# EAGLE library part RPBRX62N (library samuel)
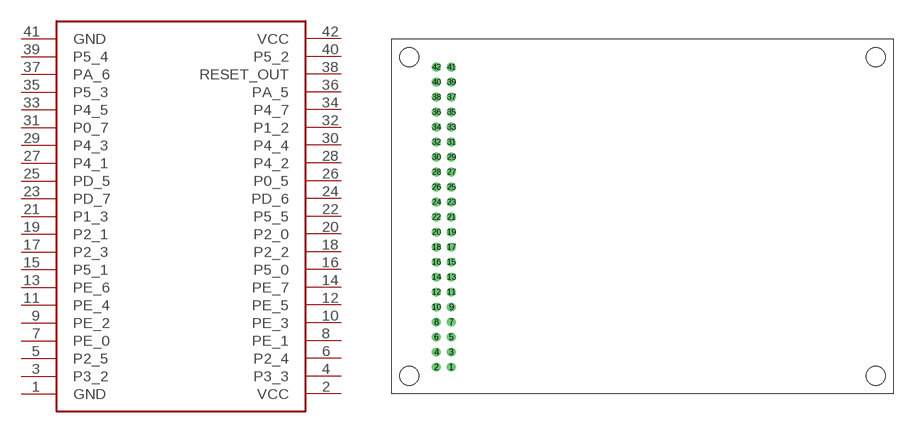
[diagram p0: symbol with the pads of RPBRX62N; footprint RPBRX62N]

Designator prefix -

## RPBRX62N  [RPBRX62N]
1  GND
2  VCC
3  P3_2
4  P3_3
5  P2_5
6  P2_4
7  PE_0
8  PE_1
9  PE_2
10  PE_3
11  PE_4
12  PE_5
13  PE_6
14  PE_7
15  P5_1
16  P5_0
17  P2_3
18  P2_2
19  P2_1
20  P2_0
21  P1_3
22  P5_5
23  PD_7
24  PD_6
25  PD_5
26  P0_5
27  P4_1
28  P4_2
29  P4_3
30  P4_4
31  P0_7
32  P1_2
33  P4_5
34  P4_7
35  P5_3
36  PA_5
37  PA_6
38  RESET_OUT
39  P5_4
40  P5_2
41  GND
42  VCC

## Footprint RPBRX62N (pad centres in mm)
drill 1: 1 10.16,4.462; 2 7.62,4.462; 3 10.16,7.002; 4 7.62,7.002; 5 10.16,9.542; 6 7.62,9.542; 7 10.16,12.082; 8 7.62,12.082; 9 10.16,14.622; 10 7.62,14.622; 11 10.16,17.162; 12 7.62,17.162; 13 10.16,19.702; 14 7.62,19.702; 15 10.16,22.242; 16 7.62,22.242; 17 10.16,24.782; 18 7.62,24.782; 19 10.16,27.322; 20 7.62,27.322; 21 10.16,29.862; 22 7.62,29.862; 23 10.16,32.402; 24 7.62,32.402; 25 10.16,34.942; 26 7.62,34.942; 27 10.16,37.482; 28 7.62,37.482; 29 10.16,40.022; 30 7.62,40.022; 31 10.16,42.562; 32 7.62,42.562; 33 10.16,45.102; 34 7.62,45.102; 35 10.16,47.642; 36 7.62,47.642; 37 10.16,50.182; 38 7.62,50.182; 39 10.16,52.722; 40 7.62,52.722; 41 10.16,55.262; 42 7.62,55.262
hole 3.2 at 3,3
hole 3.2 at 82,3
hole 3.2 at 82,57
hole 3.2 at 3,57